# Altium footprint library Diodes_SMD.PcbLib: 28 footprints (part 2 of 2)
Each footprint in its own frame and in the unit in brackets; x right, y up, seen from the top. Pads: shape width x height; smd on the part's side, far side on the other; paste and mask are expansions set on the pad; w line width, h text height; cw(c..) or ccw(c..) is an arc to the next point about the centre after c.
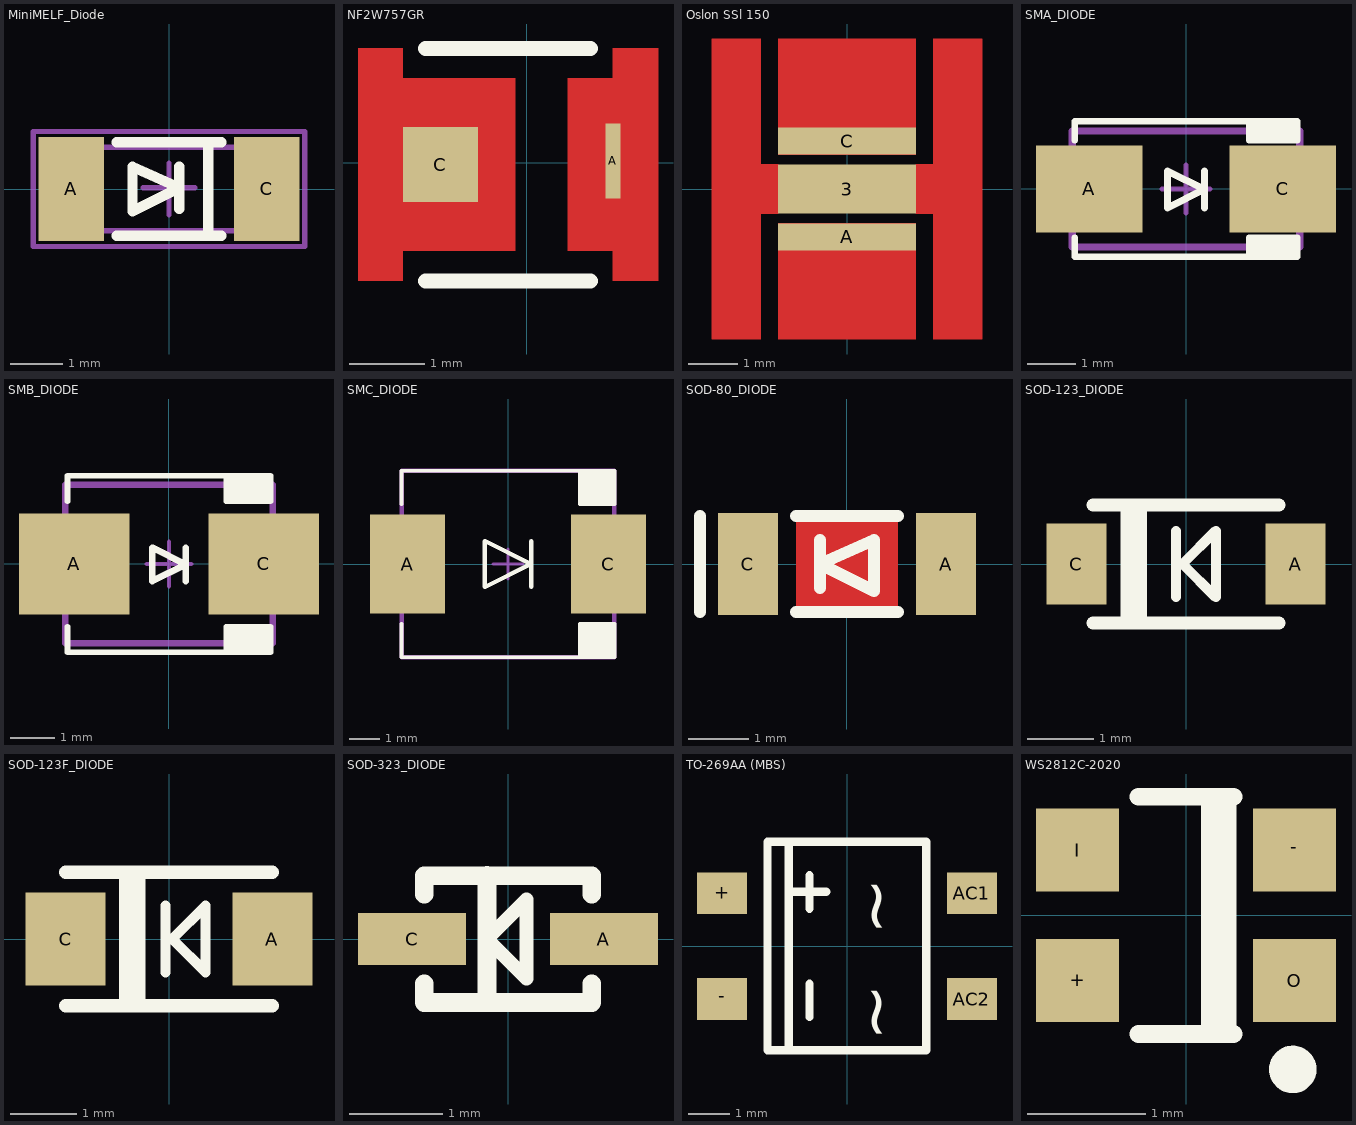
[diagram p1: the footprints below, top view; thin cyan lines are the x and y axes]

## MiniMELF_Diode [mm] "Chip Capacitor, Body 3.2x1.6mm, IPC High Density"
height 1.7
pads (2):
  rect 1.25x2 smd: A(-1.875,0) C(1.875,0)
Top Overlay:
  lines w0.2: -1,-0.9 1,-0.9 ; -1,0.9 1,0.9 ; 0.2,-0.375 0.2,0.425 ; 0.75,-0.9 0.75,0.9 ; -0.7,-0.425 0.2,0.025 -0.7,0.425 -0.7,-0.425
Mechanical 13:
  lines w0.1: -1.85,-0.8 1.85,-0.8 1.85,0.8 -1.85,0.8 -1.85,-0.8
Mechanical 15:
  lines w0.1: -0.5,0.025 0.5,0.025 ; 0,-0.5 0,0.5 ; -2.6,-1.1 2.6,-1.1 2.6,1.1 -2.6,1.1 -2.6,-1.1
3D body "MiniMelf-2.STEP": height 1.6, standoff 0, extent -1.82,-0.8 1.88,0.8

## NF2W757GR [mm] "Nichia LED Light Footprint"
height 0.65
pads (2):
  rect 0.2x1 smd: A(1.15,0.025)
  rect 1x1 smd: C(-1.15,-0.025)
Top Layer:
  region: 0.55,1.125 0.55,-1.175 1.15,-1.175 1.15,-1.575 1.75,-1.575 1.75,1.525 1.15,1.525 1.15,1.125
  region: -2.25,1.525 -1.65,1.525 -1.65,1.125 -0.15,1.125 -0.15,-1.175 -1.65,-1.175 -1.65,-1.575 -2.25,-1.575
Top Overlay:
  lines w0.2: -1.35,-1.575 0.85,-1.575 ; -1.35,1.525 0.85,1.525
Top Paste:
  region: -2.25,1.525 -1.65,1.525 -1.65,1.125 -1.4,1.125 -1.4,0.975 -0.202,0.975 -0.2,-1.025 -1.4,-1.025 -1.4,-1.175 -1.65,-1.175 -1.65,-1.575 -2.25,-1.575
  region: 0.75,-1.025 0.9,-1.025 0.9,-1.175 1.15,-1.175 1.15,-1.575 1.75,-1.575 1.75,1.525 1.15,1.525 1.15,1.125 0.9,1.125 0.9,0.975 0.75,0.975
Top Solder:
  region: -2.15,-1.925 -1.85,-1.925 -1.85,-2.225 -2.15,-2.225
3D body "Nichia 757.STEP": height 0.64, standoff -0.01, extent -1.75,-1.525 1.25,1.475

## Oslon SSl 150 [mm] "OSRAM Oslon SSL 150 LED Footprint"
height 1.58
pads (3):
  rect 2.8x1 smd mask+0: 3(0,0)
  rect 2.8x0.55 smd mask+0: A(0,-0.975) C(0,0.975)
Top Layer:
  region: -1.4,-0.5 -1.75,-0.5 -1.75,-3.05 -2.75,-3.05 -2.75,3.05 -1.75,3.05 -1.75,0.5 -1.4,0.5
  region: 1.4,0.5 1.75,0.5 1.75,3.05 2.75,3.05 2.75,-3.05 1.75,-3.05 1.75,-0.5 1.4,-0.5
  region: -1.4,0.7 -1.4,3.05 1.4,3.05 1.4,0.7
  region: -1.4,-3.05 -1.4,-0.7 1.4,-0.7 1.4,-3.05
Top Solder:
  region: -1.075,-1.675 -0.775,-1.675 -0.775,-1.975 -1.075,-1.975
3D body "LED Uni-Color Blue 451nm LD CQDP-2U3U-W5-1 oslon ssl 150.STEP": height 1.61, standoff 0, extent -1.5,-1.5 1.5,1.5

## SMA_DIODE [mm]
pads (2):
  rect 2.2x1.8 smd: A(-2,0) C(2,0)
Top Overlay:
  rectangle: 1.3,1 2.3,1.4
  rectangle: 1.3,-1.4 2.3,-1
  lines w0.127: -2.3,-1 -2.3,-1.4 2.3,-1.4 2.3,-1 1.3,-1 1.3,-1.4 ; -2.3,1 -2.3,1.4 2.3,1.4 2.3,1 1.3,1 1.3,1.4
  lines w0.15: 0.381,-0.39 0.381,0.372 ; -0.381,-0.39 -0.381,0.372 0.381,-0.009 -0.381,-0.39
Mechanical 15:
  lines w0.1: -0.5,0 0.5,0 ; 0,-0.5 0,0.5
Mechanical 16:
  lines w0.15: -2.349,-1.2 -2.349,1.2 2.349,1.2 2.349,-1.2 -2.349,-1.2
3D body "SW3dPS-DO-214AC SMA.STEP": height 2.42, standoff 0.02, extent -2.6,-1.3 2.6,1.3

## SMB_DIODE [mm]
pads (2):
  rect 2.5x2.3 smd: A(-2.15,0) C(2.15,0)
Top Overlay:
  rectangle: 1.3,1.425 2.3,2
  rectangle: 1.3,-2 2.3,-1.425
  lines w0.127: -2.3,-1.425 -2.3,-2 2.3,-2 2.3,-1.425 1.3,-1.425 1.3,-2 ; -2.3,1.425 -2.3,2 2.3,2 2.3,1.425 1.3,1.425 1.3,2
  lines w0.15: 0.381,-0.39 0.381,0.372 ; -0.381,-0.39 -0.381,0.372 0.381,-0.009 -0.381,-0.39
Mechanical 15:
  lines w0.1: -0.5,0 0.5,0 ; 0,-0.5 0,0.5
Mechanical 16:
  lines w0.15: -2.349,-1.8 -2.349,1.8 2.349,1.8 2.349,-1.8 -2.349,-1.8
3D body "SMB(DO-214AA).STEP": height 2.45, standoff 0.03, extent -2.801,-1.95 2.699,1.95

## SMC_DIODE [mm]
pads (2):
  rect 2.5x3.3 smd: A(-3.35,0) C(3.35,0)
Top Overlay:
  rectangle: 2.4,-3.11 3.55,-2
  rectangle: 2.4,2 3.55,3.11
  lines w0.127: -3.55,-2 -3.55,-3.11 3.55,-3.11 3.55,-2 2.4,-2 2.4,-3.11 ; -3.55,2 -3.55,3.11 3.55,3.11 3.55,2 2.4,2 2.4,3.11
  lines w0.15: 0.767,-0.762 0.767,0.762 ; -0.767,-0.762 0.757,0 -0.767,0.762 -0.767,-0.762
Mechanical 15:
  lines w0.1: -0.5,0 0.5,0 ; 0,-0.5 0,0.5
Mechanical 16:
  lines w0.15: -3.55,-3.11 -3.55,3.11 3.55,3.11 3.55,-3.11 -3.55,-3.11
3D body "SMC.step": height 2.27, standoff 0, extent -3.97,-2.953 3.97,2.952

## SOD-80_DIODE [mm] "MiniMELF SOD-80"
height 1.6
pads (2):
  rect 1x1.7 smd: A(1.65,0) C(-1.65,0)
Top Layer:
  pour cut-out: -0.85,0.8 0.85,0.8 0.85,-0.8 -0.85,-0.8
Top Overlay:
  lines w0.2: -2.45,-0.8 -2.45,0.8 ; -0.85,-0.8 0.85,-0.8 ; -0.85,0.8 0.85,0.8 ; -0.45,-0.4 -0.45,0.4 ; -0.45,0 0.45,-0.45 0.45,0.4 -0.45,0
3D body "MiniMelf-2.STEP": height 1.6, standoff 0, extent -1.93,-0.8 1.77,0.8

## SOD-123_DIODE [mm]
pads (2):
  rect 0.91x1.22 smd: A(1.651,0) C(-1.651,0)
Top Overlay:
  lines w0.15: -0.151,-0.5 -0.151,0.5 ; -0.151,0 -0.051,0 ; -0.051,0 0.449,-0.5 0.449,0.5 -0.051,0
  lines w0.2: -1.397,-0.889 1.397,-0.889 ; -1.397,0.889 1.397,0.889 ; -0.889,-0.889 -0.889,0.889 ; -0.689,-0.889 -0.689,0.889
3D body "SOD123-1.STEP": height 1.18, standoff 0, extent -1.951,-0.9 1.949,0.9

## SOD-123F_DIODE [mm]
height 1.4
pads (2):
  rect 1.2x1.4 smd: A(1.55,0) C(-1.55,0)
Top Overlay:
  lines w0.15: -0.05,-0.5 -0.05,0.5 ; -0.05,0 0.05,0 ; 0.05,0 0.55,-0.5 0.55,0.5 0.05,0
  lines w0.2: -1.55,-1 1.55,-1 ; -1.55,1 1.55,1 ; -0.65,-1 -0.65,1 ; -0.45,-1 -0.45,1
3D body "SOD123-1.STEP": height 1.18, standoff 0, extent -1.85,-0.9 2.05,0.9

## SOD-323_DIODE [mm] "Площадка для диода в корпусе SOD-323"
height 1
pads (2):
  rect 1.16x0.56 smd: A(1.03,0) C(-1.03,0)
Top Overlay:
  lines w0.15: -0.225,0.002 0.2,0.427 0.2,-0.423 -0.225,0.002
  lines w0.2: -0.9,-0.48 -0.9,-0.68 0.9,-0.68 0.9,-0.48 ; -0.9,0.48 -0.9,0.68 0.9,0.68 0.9,0.48 ; -0.225,-0.678 -0.225,0.682
3D body "SOD-323.STEP": height 1.1, standoff 0, extent -1.3,-0.675 1.3,0.675

## TO-269AA (MBS) [mm]
pads (4):
  rect 1.2x1 smd: +(-3,1.27) -(-3,-1.27) AC1(3,1.27) AC2(3,-1.27)
Top Overlay:
  lines w0.2: -1.402,-2.5 -1.402,2.5 ; -1.3,1.3 -0.5,1.3 ; -0.9,-1.7 -0.9,-0.9 ; -0.9,0.9 -0.9,1.7 ; -1.91,-2.5 1.9,-2.5 1.9,2.5 -1.91,2.5 -1.91,-2.5
  text "~" at 0.2,1.64 h1.2
  text "~" at 0.2,-0.9 h1.2
3D body "TO-269AA (MBS).STEP": height 2.8, standoff 0, extent -3.347,-2.43 3.353,2.52

## WS2812C-2020 [mm] "Intelligent control LED  integrated light source"
height 1.6
pads (4):
  rect 0.7x0.7 smd: +(-0.915,-0.55) -(0.915,0.55) I(-0.915,0.55) O(0.915,-0.55)
Top Overlay:
  circle w0.2: c0.9,-1.3 r0.1
  lines w0.15: -0.4,-1 0.4,-1 ; -0.4,1 0.4,1 ; 0.2,-1 0.2,1 ; 0.3,-1 0.3,1 ; 0.35,-1 0.35,1
3D body "WS2812C-2020.stp": height 0.86, standoff 0.01, extent -1.1,-1 1.1,1